# EAGLE library part USB_HUB_4_PORT (library asst)
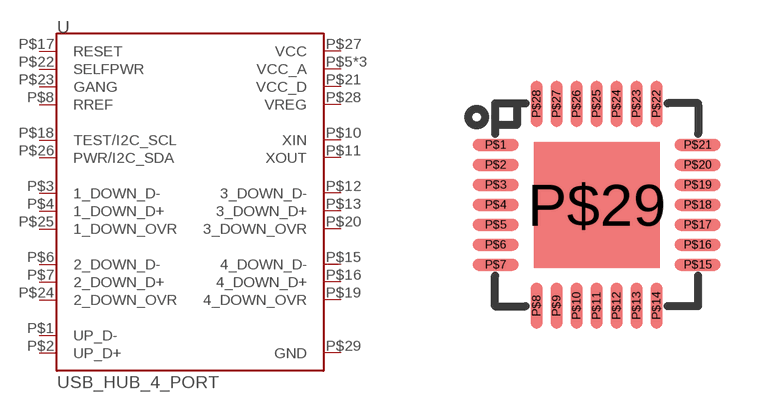
[diagram p0: symbol with the pads of QFN-28-5MM-1:1; footprint QFN-28-5MM-1:1]

Designator prefix U

## USB_HUB_4_PORT  [QFN-28-5MM-1:1]
P$1  UP_D-
P$2  UP_D+
P$3  1_DOWN_D-
P$4  1_DOWN_D+
P$5  VCC_A
P$6  2_DOWN_D-
P$7  2_DOWN_D+
P$8  RREF
P$9  VCC_A
P$10  XIN
P$11  XOUT
P$12  3_DOWN_D-
P$13  3_DOWN_D+
P$14  VCC_A
P$15  4_DOWN_D-
P$16  4_DOWN_D+
P$17  RESET
P$18  TEST/I2C_SCL
P$19  4_DOWN_OVR
P$20  3_DOWN_OVR
P$21  VCC_D
P$22  SELFPWR
P$23  GANG
P$24  2_DOWN_OVR
P$25  1_DOWN_OVR
P$26  PWR/I2C_SDA
P$27  VCC
P$28  VREG
P$29  GND

## Footprint QFN-28-5MM-1:1 (pad centres in mm)
smd 1.15 x 0.3: P$1 -2.527,1.5; P$2 -2.527,1; P$3 -2.527,0.5; P$4 -2.527,0; P$5 -2.527,-0.5; P$6 -2.527,-1; P$7 -2.527,-1.5; P$15 2.527,-1.5; P$16 2.527,-1; P$17 2.527,-0.5; P$18 2.527,0; P$19 2.527,0.5; P$20 2.527,1; P$21 2.527,1.5
smd 0.3 x 1.15: P$8 -1.5,-2.527; P$9 -1,-2.527; P$10 -0.5,-2.527; P$11 0,-2.527; P$12 0.5,-2.527; P$13 1,-2.527; P$14 1.5,-2.527; P$22 1.5,2.527; P$23 1,2.527; P$24 0.5,2.527; P$25 0,2.527; P$26 -0.5,2.527; P$27 -1,2.527; P$28 -1.5,2.527
smd 3.15 x 3.15: P$29 0,0